# Altium footprint library 音视频插座.PcbLib: 18 footprints (part 2 of 2)
Each footprint in its own frame and in the unit in brackets; x right, y up, seen from the top. Pads: shape width x height; smd on the part's side, far side on the other; paste and mask are expansions set on the pad; w line width, h text height; cw(c..) or ccw(c..) is an arc to the next point about the centre after c.
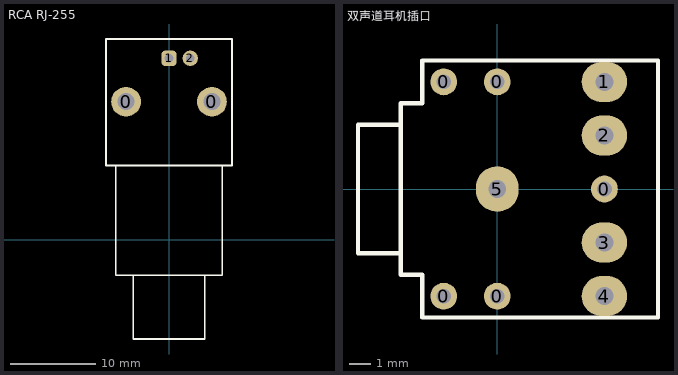
[diagram p1: the footprints below, top view; thin cyan lines are the x and y axes]

## RCA RJ-255 [mm] "RCA莲花头AV接口座"
pads (4):
  round 3.5 hole 2: 0(-5.05,16.212) 0(5.05,16.212)
  rrect50% 1.8x1.8 hole 1: 1(0,21.312)
  round 1.8 hole 1: 2(2.5,21.312)
Top Overlay:
  lines w0.203: -6.25,8.7 -6.25,-4.2 6.25,-4.2 6.25,8.7 ; -4.2,-4.2 -4.2,-8.4 -4.2,-11.684 4.2,-11.684 4.2,-4.2 ; -7.417,8.7 7.417,8.7 7.417,23.584 -7.417,23.584 -7.417,8.7
3D body "RCA RJ-255-.STEP": height 13.95, standoff -5.35, extent -7.366,-11.708 7.334,23.392

## 双声道耳机插口 [mm]
height 5
pads (10):
  round 1.27 hole 0.7: 0(-2.54,-5.08) 0(-2.54,5.08) 0(0,-5.08) 0(0,5.08) 0(5.08,0)
  oval 2.159x1.905 hole 0.85: 1(5.08,5.08) 2(5.08,2.54) 3(5.08,-2.54) 4(5.08,-5.08)
  oval 2.032x2.159 hole 0.85: 5(0,0)
Top Overlay:
  lines w0.203: -4.572,-3.048 -6.604,-3.048 -6.604,3.048 -4.572,3.048 ; -4.572,-4.064 -3.556,-4.064 -3.556,-6.096 7.62,-6.096 7.62,6.096 -3.556,6.096 -3.556,4.064 -4.572,4.064 -4.572,-4.064
3D body: height 2.24, standoff -0.76, extent -0.5,-0.496 0.498,0.5
3D body: height 2.24, standoff -0.76, extent 4.58,-5.576 5.578,-4.58
3D body: height 2.24, standoff -0.76, extent 4.58,-3.036 5.578,-2.04
3D body: height 2.24, standoff -0.76, extent 4.58,2.084 5.578,3.08
3D body: height 2.24, standoff -0.76, extent 4.58,4.584 5.578,5.58
3D body: height 2.24, standoff -0.76, extent 4.775,-0.299 5.374,0.299
3D body: height 2.24, standoff -0.76, extent -0.305,-5.379 0.294,-4.781
3D body: height 2.24, standoff -0.76, extent -2.845,-5.379 -2.246,-4.781
3D body: height 2.24, standoff -0.76, extent -2.845,4.781 -2.246,5.379
3D body: height 2.24, standoff -0.76, extent -0.305,4.781 0.294,5.379
3D body: height 4.8, standoff 1.2, extent -6.604,-1.808 -5.604,1.778
3D body: height 5.99, standoff 0.01, extent -6.588,-2.988 -5.588,2.988
3D body: height 5.99, standoff 0.01, extent -5.572,-2.988 -4.572,2.988
3D body: height 5, standoff 0.03, extent -4.572,-4.064 -3.556,4.064
3D body: height 5, standoff 0.03, extent -3.556,-6.096 7.62,6.096